# EAGLE library part B-10005G3Y2E (library C8051F300)
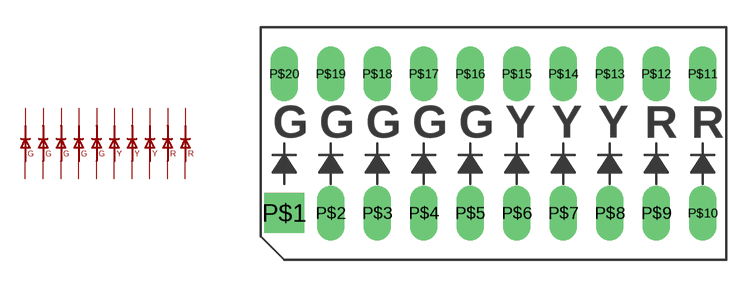
[diagram p28: symbol with the pads of B-10005G3Y2E; footprint B-10005G3Y2E]

Designator prefix -

## B-10005G3Y2E  [B-10005G3Y2E]
P$1  P$1
P$2  P$2
P$3  P$3
P$4  P$4
P$5  P$5
P$6  P$6
P$7  P$7
P$8  P$8
P$9  P$9
P$10  P$10
P$11  P$11
P$12  P$12
P$13  P$13
P$14  P$14
P$15  P$15
P$16  P$16
P$17  P$17
P$18  P$18
P$19  P$19
P$20  P$20

## Footprint B-10005G3Y2E (pad centres in mm)
drill 1 pad 2.184 square: P$1 0,0
drill 1 pad 1.5 long: P$2 2.54,0; P$3 5.08,0; P$4 7.62,0; P$5 10.16,0; P$6 12.7,0; P$7 15.24,0; P$8 17.78,0; P$9 20.32,0; P$10 22.86,0; P$11 22.86,7.62; P$12 20.32,7.62; P$13 17.78,7.62; P$14 15.24,7.62; P$15 12.7,7.62; P$16 10.16,7.62; P$17 7.62,7.62; P$18 5.08,7.62; P$19 2.54,7.62; P$20 0,7.62